# Altium integrated library WE-SL5 HC SMD Common Mode Line Filter.IntLib: 4 symbols
Pins are listed as number, name and electrical type; pins without a type are passive.

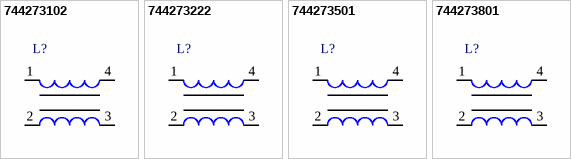
[diagram p0: symbols 744273102 to 744273801]

## 744273102
designator L?
SMD Common Mode Line Filter WE-SL5 HC, L=11.00 µH; PartNumber: 744273102; PackageReference: WE-SL5-HC; PackageDescription: SMD Inductor, Body 8.3 x 9.5 mm; Inductance: 11.00 µH; ComponentLink1Description: Manufacturer URL; ComponentLink1URL: http://www.we-online.com; ComponentLink2Description: Datasheet; ComponentLink2URL: http://www.we-online.de/katalog/media/pdf/744273102.pdf
footprint WE-SL5-HC (SMD Inductor, Body 8.3x9.5x5.3 mm)
pins: 1, 2, 3, 4

## 744273222
designator L?
SMD Common Mode Line Filter WE-SL5 HC, L=30.00 µH; PartNumber: 744273222; PackageReference: WE-SL5-HC; PackageDescription: SMD Inductor, Body 8.3 x 9.5 mm; Inductance: 30.00 µH; ComponentLink1Description: Manufacturer URL; ComponentLink1URL: http://www.we-online.com; ComponentLink2Description: Datasheet; ComponentLink2URL: http://www.we-online.de/katalog/media/pdf/744273222.pdf
footprint WE-SL5-HC (SMD Inductor, Body 8.3x9.5x5.3 mm)
pins: 1, 2, 3, 4

## 744273501
designator L?
SMD Common Mode Line Filter WE-SL5 HC, L = 5.00 µH; PartNumber: 744273501; Inductance: 5.00 µH; DatasheetVersion: ver 3, Feb-2010; PackageReference: WE-SL5-HC; PackageDescription: SMD Inductor, Body 8.3 x 9.5 mm; ComponentLink1Description: Manufacturer URL; ComponentLink1URL: http://www.we-online.com; ComponentLink2Description: Datasheet; ComponentLink2URL: http://www.we-online.de/katalog/media/pdf/744273501.pdf
footprint WE-SL5-HC (SMD Inductor, Body 8.3x9.5x5.3 mm)
pins: 1, 2, 3, 4

## 744273801
designator L?
SMD Common Mode Line Filter WE-SL5 HC, L = 9.00 µH; PartNumber: 744273801; Inductance: 9.00 µH; DatasheetVersion: ver 3, Feb-2010; PackageReference: WE-SL5-HC; PackageDescription: SMD Inductor, Body 8.3 x 9.5 mm; ComponentLink1Description: Manufacturer URL; ComponentLink1URL: http://www.we-online.com; ComponentLink2Description: Datasheet; ComponentLink2URL: http://www.we-online.de/katalog/media/pdf/744273801.pdf
footprint WE-SL5-HC (SMD Inductor, Body 8.3x9.5x5.3 mm)
pins: 1, 2, 3, 4